# Altium schematic symbol library WL-STCW.SchLib: 3 symbols
Pins are listed as number, name and electrical type; pins without a type are passive.

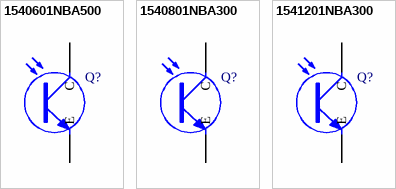
[diagram p0: symbols 1540601NBA500 to 1541201NBA300]

## 1540601NBA500
designator Q?  (value not drawn)
WL-STCW SMT Phototransistor Chip Waterclear, size 0603, 400-1100nm, 1.6mA, 150°; Manufacturer: Wurth Elektronik; Case/Size Code: 0603; Chip Technology: Si; Collector Current Min: 0.9mA; Collector-Emitter Dark Current: 100nA; Polarity: NPN Phototransistor; Range of Spectral Bandwidth Min: 400nm; Range of Spectral Bandwidth Max: 1100nm; Wavelength of Peak Sensitivity: 940nm; ComponentLink1Description: Website Link; ComponentLink1URL: https://www.we-online.com/redexpert/article/1540601NBA500?ad; ComponentLink2Description: Datasheet Link; ComponentLink2URL: https://www.we-online.com/redexpert/spec/1540601NBA500?ad; Manufacturer Part Number: 1540601NBA500; Category: Phototransistors; Match Code: WL-STCW; Mount: Surface Mount; Operating Temperature Max: 85°C; Operating Temperature Min: -40°C; Packaging: Tape and Reel; Length: 1.6mm; Width: 0.8mm; Height: 0.8mm; Collector Current: 1.6mA; Viewing Angle: 150°
footprint WL-STCW_0603
pins: 1 C, 2 E

## 1540801NBA300
designator Q?  (value not drawn)
WL-STCW SMT Phototransistor Chip Waterclear, size 0805, 400-1100nm, 1mA, 130°; Manufacturer: Wurth Elektronik; Case/Size Code: 0805; Chip Technology: Si; Collector Current Min: 0.1mA; Collector-Emitter Dark Current: 100nA; Polarity: NPN Phototransistor; Range of Spectral Bandwidth Min: 400nm; Range of Spectral Bandwidth Max: 1100nm; Wavelength of Peak Sensitivity: 940nm; ComponentLink1Description: Website Link; ComponentLink1URL: https://www.we-online.com/redexpert/article/1540801NBA300?ad; ComponentLink2Description: Datasheet Link; ComponentLink2URL: https://www.we-online.com/redexpert/spec/1540801NBA300?ad; Manufacturer Part Number: 1540801NBA300; Category: Phototransistors; Match Code: WL-STCW; Mount: Surface Mount; Operating Temperature Max: 85°C; Operating Temperature Min: -40°C; Packaging: Tape and Reel; Length: 2mm; Width: 1.3mm; Height: 0.8mm; Collector Current: 1mA; Viewing Angle: 130°
footprint WL-STCW_0805
pins: 1 C, 2 E

## 1541201NBA300
designator Q?  (value not drawn)
WL-STCW SMT Phototransistor Chip Waterclear, size 1206, 400-1100nm, 1mA, 130°; Manufacturer: Wurth Elektronik; Case/Size Code: 1206; Chip Technology: Si; Collector Current Min: 0.1mA; Collector-Emitter Dark Current: 100nA; Polarity: NPN Phototransistor; Range of Spectral Bandwidth Min: 400nm; Range of Spectral Bandwidth Max: 1100nm; Wavelength of Peak Sensitivity: 940nm; ComponentLink1Description: Website Link; ComponentLink1URL: https://www.we-online.com/redexpert/article/1541201NBA300?ad; ComponentLink2Description: Datasheet Link; ComponentLink2URL: https://www.we-online.com/redexpert/spec/1541201NBA300?ad; Manufacturer Part Number: 1541201NBA300; Category: Phototransistors; Match Code: WL-STCW; Mount: Surface Mount; Operating Temperature Max: 85°C; Operating Temperature Min: -40°C; Packaging: Tape and Reel; Length: 3.2mm; Width: 1.6mm; Height: 1.1mm; Collector Current: 1mA; Viewing Angle: 130°
footprint WL-STCW_1206
pins: 1 C, 2 E